# EAGLE library part FEATHER-HUZZAH (library Adafruit_Modules)
Adafruit Feather HUZZAH ESP8266 (SP8266 WiFi - 80 MHz)
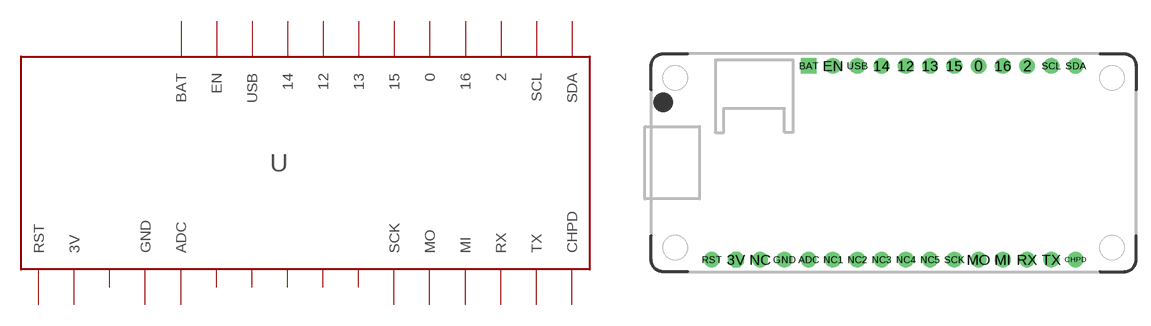
[diagram p15: symbol with the pads of FEATHER-HUZZAH; footprint FEATHER-HUZZAH]

Designator prefix -

## FEATHER-HUZZAH (ADAFRUIT: 2821)  [FEATHER-HUZZAH]
0  0
2  2
3V  3V  out
12  12
13  13
14  14
15  15
16  16
ADC  ADC
BAT  BAT  pwr
CHPD  CHPD
EN  EN  pas
GND  GND  pwr
MI  MI
MO  MO
NC  NC  nc
NC1  NC1  nc
NC2  NC2  nc
NC3  NC3  nc
NC4  NC4  nc
NC5  NC5  nc
RST  RST  pas
RX  RX
SCK  SCK
SCL  SCL
SDA  SDA
TX  TX
USB  USB  out

## Footprint FEATHER-HUZZAH (pad centres in mm)
Adafruit Feather Huzzah
drill 1.1: 0 8.89,10.16; 2 13.97,10.16; 12 1.27,10.16; 13 3.81,10.16; 14 -1.27,10.16; 15 6.35,10.16; 16 11.43,10.16; ADC -8.89,-10.16; CHPD 19.05,-10.16; EN -6.35,10.16; GND -11.43,-10.16; MI 11.43,-10.16; MO 8.89,-10.16; NC -13.97,-10.16; NC1 -6.35,-10.16; NC2 -3.81,-10.16; NC3 -1.27,-10.16; NC4 1.27,-10.16; NC5 3.81,-10.16; RST -19.05,-10.16; RX 13.97,-10.16; SCK 6.35,-10.16; SCL 16.51,10.16; SDA 19.05,10.16; TX 16.51,-10.16; USB -3.81,10.16
drill 1.1 octagon: 3V -16.51,-10.16
drill 1.1 square: BAT -8.89,10.16